# EAGLE library part FT232H (library Radicon)
FT232H SINGLE CHANNEL HI-SPEED USB TO MULTIPURPOSE UART/FIFO IC
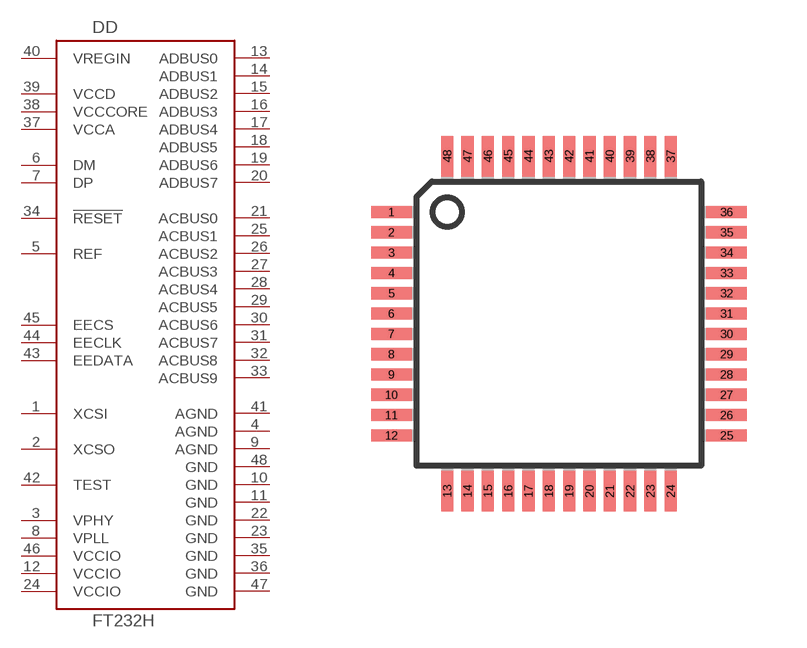
[diagram p52: symbol with the pads of TQFP48; footprint TQFP48]

Designator prefix DD

## FT232HL  [TQFP48]
1  XCSI
2  XCSO
3  VPHY
4  AGND
5  REF
6  DM
7  DP
8  VPLL
9  AGND
10  GND
11  GND
12  VCCIO
13  ADBUS0
14  ADBUS1
15  ADBUS2
16  ADBUS3
17  ADBUS4
18  ADBUS5
19  ADBUS6
20  ADBUS7
21  ACBUS0
22  GND
23  GND
24  VCCIO
25  ACBUS1
26  ACBUS2
27  ACBUS3
28  ACBUS4
29  ACBUS5
30  ACBUS6
31  ACBUS7
32  ACBUS8
33  ACBUS9
34  !RESET
35  GND
36  GND
37  VCCA
38  VCCCORE
39  VCCD
40  VREGIN
41  AGND
42  TEST
43  EEDATA
44  EECLK
45  EECS
46  VCCIO
47  GND
48  GND

## Footprint TQFP48 (pad centres in mm)
Thin Plasic Quad Flat Package
smd 1.016 x 0.305: 1 -4.191,2.794; 2 -4.191,2.286; 3 -4.191,1.778; 4 -4.191,1.27; 5 -4.191,0.762; 6 -4.191,0.254; 7 -4.191,-0.254; 8 -4.191,-0.762; 9 -4.191,-1.27; 10 -4.191,-1.778; 11 -4.191,-2.286; 12 -4.191,-2.794; 25 4.191,-2.794; 26 4.191,-2.286; 27 4.191,-1.778; 28 4.191,-1.27; 29 4.191,-0.762; 30 4.191,-0.254; 31 4.191,0.254; 32 4.191,0.762; 33 4.191,1.27; 34 4.191,1.778; 35 4.191,2.286; 36 4.191,2.794
smd 0.305 x 1.016: 13 -2.794,-4.191; 14 -2.286,-4.191; 15 -1.778,-4.191; 16 -1.27,-4.191; 17 -0.762,-4.191; 18 -0.254,-4.191; 19 0.254,-4.191; 20 0.762,-4.191; 21 1.27,-4.191; 22 1.778,-4.191; 23 2.286,-4.191; 24 2.794,-4.191; 37 2.794,4.191; 38 2.286,4.191; 39 1.778,4.191; 40 1.27,4.191; 41 0.762,4.191; 42 0.254,4.191; 43 -0.254,4.191; 44 -0.762,4.191; 45 -1.27,4.191; 46 -1.778,4.191; 47 -2.286,4.191; 48 -2.794,4.191